# Altium schematic symbol library LSM9DS1.SchLib: 1 symbol
Pins are listed as number, name and electrical type; pins without a type are passive.

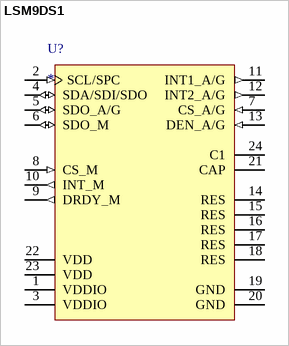
[diagram p0: symbol LSM9DS1]

## LSM9DS1
designator U?
iNEMO Inertial Module: 3D Accelerometer, 3D Gyroscope, 3D Magnetometer, 1.9 to 3.6 V, -40 to 85 degC, 24-Pin LGA, RoHS, Tape and Reel
footprint LSM9DS1
pins: 1 VDDIO (power) "Power supply for I/O pins", 2 SCL/SPC (in), 3 VDDIO (power) "Power supply for I/O pins", 4 SDA/SDI/SDO (io), 5 SDO_A/G (io), 6 SDO_M (io) "SPI serial data output (SDO) for the magnetometer. I2C least significant bit of the device address (SA0) for the magnetometer", 7 CS_A/G (in), 8 CS_M (in) "SPI enable. I2C/SPI mode selection for the magnetometer (1: SPI idle mode / I2C communication enabled; 0: SPI communication mode / I2C disabled)", 9 DRDY_M (out) "Magnetic sensor data ready", 10 INT_M (out) "Magnetic sensor interrupt", 11 INT1_A/G (out), 12 INT2_A/G (out), 13 DEN_A/G (in), 14 RES "Reserved. Connected to GND.", 15 RES "Reserved. Connected to GND.", 16 RES "Reserved. Connected to GND.", 17 RES "Reserved. Connected to GND.", 18 RES "Reserved. Connected to GND.", 19 GND (power) "0 V supply", 20 GND (power) "0 V supply", 21 CAP "Connected to GND with ceramic capacitor", 22 VDD (power) "Power supply", 23 VDD (power) "Power supply", 24 C1 "Capacitor connection (C1 = 100 nF)"